# EAGLE library part FT232RL (library __MyCommonLib1)
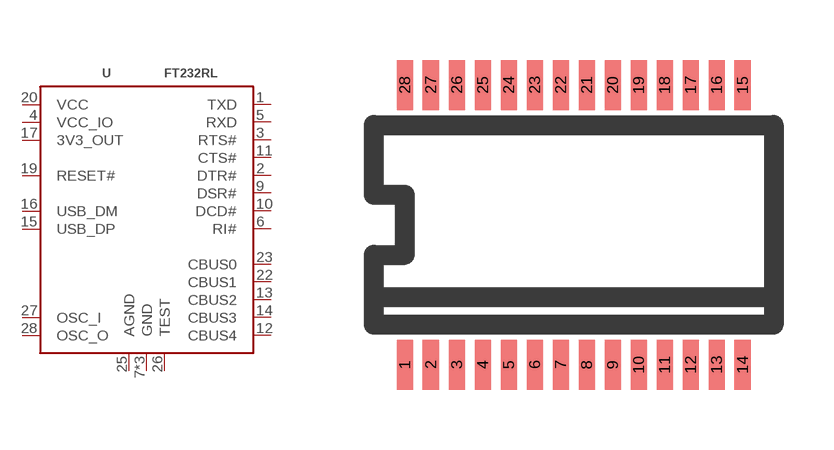
[diagram p15: symbol with the pads of SSOP-28; footprint SSOP-28]

Designator prefix -

## FT232RL(SSOP-28)  [SSOP-28]
1  TXD
2  DTR#
3  RTS#
4  VCC_IO
5  RXD
6  RI#
7  GND
9  DSR#
10  DCD#
11  CTS#
12  CBUS4
13  CBUS2
14  CBUS3
15  USB_DP
16  USB_DM
17  3V3_OUT
18  GND
19  RESET#
20  VCC
21  GND
22  CBUS1
23  CBUS0
25  AGND
26  TEST
27  OSC_I
28  OSC_O

## Footprint SSOP-28 (pad centres in mm)
smd 0.4 x 1.25: 1 -4.225,-3.5; 2 -3.575,-3.5; 3 -2.925,-3.5; 4 -2.275,-3.5; 5 -1.625,-3.5; 6 -0.975,-3.5; 7 -0.325,-3.5; 8 0.325,-3.5; 9 0.975,-3.5; 10 1.625,-3.5; 11 2.275,-3.5; 12 2.925,-3.5; 13 3.575,-3.5; 14 4.225,-3.5; 15 4.225,3.5; 16 3.575,3.5; 17 2.925,3.5; 18 2.275,3.5; 19 1.625,3.5; 20 0.975,3.5; 21 0.325,3.5; 22 -0.325,3.5; 23 -0.975,3.5; 24 -1.625,3.5; 25 -2.275,3.5; 26 -2.925,3.5; 27 -3.575,3.5; 28 -4.225,3.5